# EAGLE library part AVR_ICSP (library fmc)
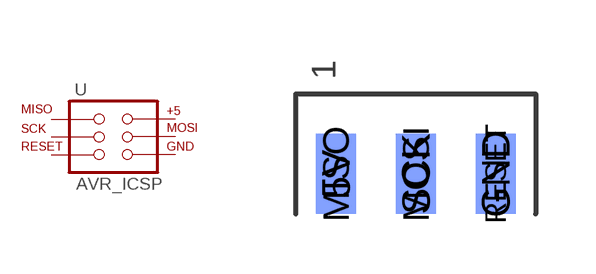
[diagram p3: symbol with the pads of ICSP_SMD; footprint ICSP_SMD]

Designator prefix -

## AVR_ICSP  [ICSP_SMD]
5V  +5V  pas
GND  GND  pas
MISO  MISO  pas
MOSI  MOSI  pas
RESET  RESET  pas
SCK  SCK  pas

## Footprint ICSP_SMD (pad centres in mm)
smd 1 x 2: 5V -2,1; GND 2,1; MOSI 0,1
smd 1 x 2 bottom: MISO -2,1; RESET 2,1; SCK 0,1